# EAGLE library part TBA820 (library ic)
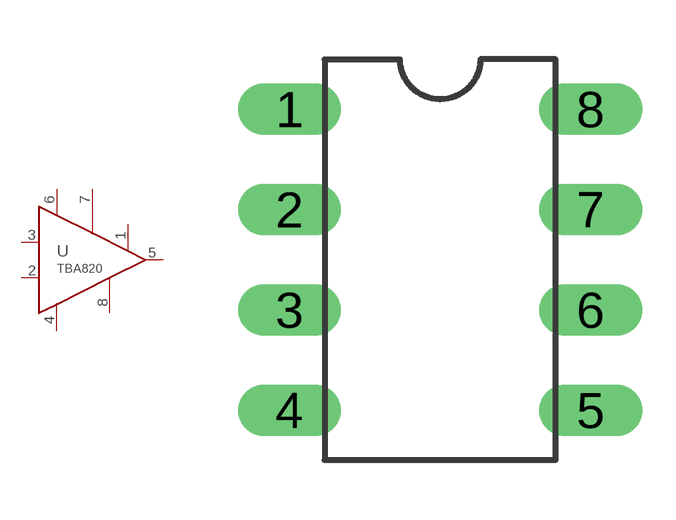
[diagram p52: symbol with the pads of DIL08; footprint DIL08]

Designator prefix -

## TBA820  [DIL08]
1  FREQ  in
2  GAIN  in
3  INPUT  in
4  GND  pwr
5  OUT  out
6  VCC  pwr
7  BOOT  in
8  RIPPLE  in

## Footprint DIL08 (pad centres in mm)
Dual In Line Package
drill 0.8 pad 1.27 long: 1 -3.81,3.81; 2 -3.81,1.27; 3 -3.81,-1.27; 4 -3.81,-3.81; 5 3.81,-3.81; 6 3.81,-1.27; 7 3.81,1.27; 8 3.81,3.81